# Altium footprint library PcbLib1.PcbLib: 1 footprints
Each footprint in its own frame and in the unit in brackets; x right, y up, seen from the top. Pads: shape width x height; smd on the part's side, far side on the other; paste and mask are expansions set on the pad; w line width, h text height; cw(c..) or ccw(c..) is an arc to the next point about the centre after c.
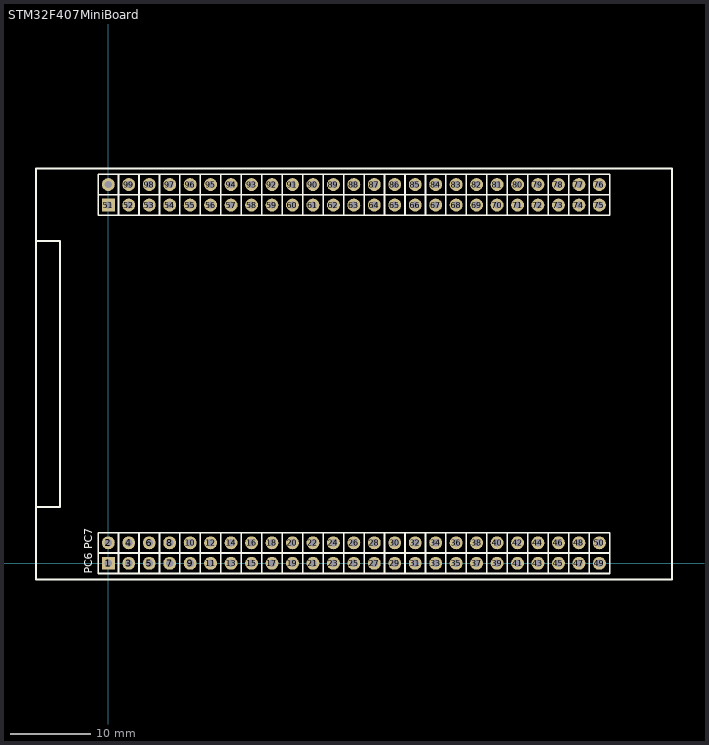
[diagram p0: the footprint, top view; thin cyan lines are the x and y axes]

## STM32F407MiniBoard [mm]
pads (100):
  rect 1.6x1.6 hole 0.9: 1(0,0) 51(0,44.475)
  round 1.6 hole 0.9: 2(0,2.54) 3(2.54,0) 4(2.54,2.54) 5(5.08,0) 6(5.08,2.54) 7(7.62,0) 8(7.62,2.54) 9(10.16,0) 10(10.16,2.54) 11(12.7,0) 12(12.7,2.54) 13(15.24,0) 14(15.24,2.54) 15(17.78,0) 16(17.78,2.54) 17(20.32,0) 18(20.32,2.54) 19(22.86,0) 20(22.86,2.54) 21(25.4,0) 22(25.4,2.54) 23(27.94,0) 24(27.94,2.54) 25(30.48,0) 26(30.48,2.54) 27(33.02,0) 28(33.02,2.54) 29(35.56,0) 30(35.56,2.54) 31(38.1,0) 32(38.1,2.54) 33(40.64,0) 34(40.64,2.54) 35(43.18,0) 36(43.18,2.54) 37(45.72,0) 38(45.72,2.54) 39(48.26,0) 40(48.26,2.54) 41(50.8,0) 42(50.8,2.54) 43(53.34,0) 44(53.34,2.54) 45(55.88,0) 46(55.88,2.54) 47(58.42,0) 48(58.42,2.54) 49(60.96,0) 50(60.96,2.54) 52(2.54,44.475) 53(5.08,44.475) 54(7.62,44.475) 55(10.16,44.475) 56(12.7,44.475) 57(15.24,44.475) 58(17.78,44.475) 59(20.32,44.475) 60(22.86,44.475) 61(25.4,44.475) 62(27.94,44.475) 63(30.48,44.475) 64(33.02,44.475) 65(35.56,44.475) 66(38.1,44.475) 67(40.64,44.475) 68(43.18,44.475) 69(45.72,44.475) 70(48.26,44.475) 71(50.8,44.475) 72(53.34,44.475) 73(55.88,44.475) 74(58.42,44.475) 75(60.96,44.475) 76(60.96,47.015) 77(58.42,47.015) 78(55.88,47.015) 79(53.34,47.015) 80(50.8,47.015) 81(48.26,47.015) 82(45.72,47.015) 83(43.18,47.015) 84(40.64,47.015) 85(38.1,47.015) 86(35.56,47.015) 87(33.02,47.015) 88(30.48,47.015) 89(27.94,47.015) 90(25.4,47.015) 91(22.86,47.015) 92(20.32,47.015) 93(17.78,47.015) 94(15.24,47.015) 95(12.7,47.015) 96(10.16,47.015) 97(7.62,47.015) 98(5.08,47.015) 99(2.54,47.015) 100(0,47.015)
Top Overlay:
  lines w0.2: 62.23,-1.27 -1.27,-1.27 -1.27,3.81 62.23,3.81 ; 62.23,43.205 -1.27,43.205 -1.27,48.285 62.23,48.285
  lines w0.203: -1.27,1.27 62.23,1.27 ; -1.27,45.745 62.23,45.745 ; 1.27,-1.27 1.27,3.81 ; 1.27,43.205 1.27,48.285 ; 3.81,-1.27 3.81,3.81 ; 3.81,43.205 3.81,48.285 ; 6.35,-1.27 6.35,3.81 ; 6.35,43.205 6.35,48.285 ; 8.89,-1.27 8.89,3.81 ; 8.89,43.205 8.89,48.285 ; 11.43,-1.27 11.43,3.81 ; 11.43,43.205 11.43,48.285 ; 13.97,-1.27 13.97,3.81 ; 13.97,43.205 13.97,48.285 ; 16.51,-1.27 16.51,3.81 ; 16.51,43.205 16.51,48.285 ; 19.05,-1.27 19.05,3.81 ; 19.05,43.205 19.05,48.285 ; 21.59,-1.27 21.59,3.81 ; 21.59,43.205 21.59,48.285 ; 24.13,-1.27 24.13,3.81 ; 24.13,43.205 24.13,48.285 ; 26.67,-1.27 26.67,3.81 ; 26.67,43.205 26.67,48.285 ; 29.21,-1.27 29.21,3.81 ; 29.21,43.205 29.21,48.285 ; 31.75,-1.27 31.75,3.81 ; 31.75,43.205 31.75,48.285 ; 34.29,-1.27 34.29,3.81 ; 34.29,43.205 34.29,48.285 ; 36.83,-1.27 36.83,3.81 ; 36.83,43.205 36.83,48.285 ; 39.37,-1.27 39.37,3.81 ; 39.37,43.205 39.37,48.285 ; 41.91,-1.27 41.91,3.81 ; 41.91,43.205 41.91,48.285 ; 44.45,-1.27 44.45,3.81 ; 44.45,43.205 44.45,48.285 ; 46.99,-1.27 46.99,3.81 ; 46.99,43.205 46.99,48.285 ; 49.53,-1.27 49.53,3.81 ; 49.53,43.205 49.53,48.285 ; 52.07,-1.27 52.07,3.81 ; 52.07,43.205 52.07,48.285 ; 54.61,-1.27 54.61,3.81 ; 54.61,43.205 54.61,48.285 ; 57.15,-1.27 57.15,3.81 ; 57.15,43.205 57.15,48.285 ; 59.69,-1.27 59.69,3.81 ; 59.69,43.205 59.69,48.285 ; 62.23,-1.27 62.23,3.81 ; 62.23,43.205 62.23,48.285
  lines w0.254: -9,7 -8,7 -6,7 -6,40 -9,40 ; -9,-2 -9,48.285 -9,49 62.23,49 70,49 70,-2 -1.27,-2 -9,-2
  text "PC6 PC7" at -2,-1.27 h1
3D body "HDR2.54-1x2P.STEP": height 8.5, standoff -3, extent 57.15,-1.27 59.69,3.81
3D body "HDR2.54-1x2P.STEP": height 8.5, standoff -3, extent 49.53,-1.27 52.07,3.81
3D body "HDR2.54-1x2P.STEP": height 8.5, standoff -3, extent 54.61,-1.27 57.15,3.81
3D body "HDR2.54-1x2P.STEP": height 8.5, standoff -3, extent 52.07,-1.27 54.61,3.81
3D body "HDR2.54-1x2P.STEP": height 8.5, standoff -3, extent 59.69,-1.27 62.23,3.81
3D body "HDR2.54-1x2P.STEP": height 8.5, standoff -3, extent 41.91,-1.27 44.45,3.81
3D body "HDR2.54-1x2P.STEP": height 8.5, standoff -3, extent 44.45,-1.27 46.99,3.81
3D body "HDR2.54-1x2P.STEP": height 8.5, standoff -3, extent 36.83,-1.27 39.37,3.81
3D body "HDR2.54-1x2P.STEP": height 8.5, standoff -3, extent 39.37,-1.27 41.91,3.81
3D body "HDR2.54-1x2P.STEP": height 8.5, standoff -3, extent 46.99,-1.27 49.53,3.81
3D body "HDR2.54-1x2P.STEP": height 8.5, standoff -3, extent 29.21,-1.27 31.75,3.81
3D body "HDR2.54-1x2P.STEP": height 8.5, standoff -3, extent 31.75,-1.27 34.29,3.81
3D body "HDR2.54-1x2P.STEP": height 8.5, standoff -3, extent 24.13,-1.27 26.67,3.81
3D body "HDR2.54-1x2P.STEP": height 8.5, standoff -3, extent 26.67,-1.27 29.21,3.81
3D body "HDR2.54-1x2P.STEP": height 8.5, standoff -3, extent 34.29,-1.27 36.83,3.81
3D body "HDR2.54-1x2P.STEP": height 8.5, standoff -3, extent 16.51,-1.27 19.05,3.81
3D body "HDR2.54-1x2P.STEP": height 8.5, standoff -3, extent 19.05,-1.27 21.59,3.81
3D body "HDR2.54-1x2P.STEP": height 8.5, standoff -3, extent 11.43,-1.27 13.97,3.81
3D body "HDR2.54-1x2P.STEP": height 8.5, standoff -3, extent 13.97,-1.27 16.51,3.81
3D body "HDR2.54-1x2P.STEP": height 8.5, standoff -3, extent 21.59,-1.27 24.13,3.81
3D body "HDR2.54-1x2P.STEP": height 8.5, standoff -3, extent 3.81,-1.27 6.35,3.81
3D body "HDR2.54-1x2P.STEP": height 8.5, standoff -3, extent 6.35,-1.27 8.89,3.81
3D body "HDR2.54-1x2P.STEP": height 8.5, standoff -3, extent -1.27,-1.27 1.27,3.81
3D body "HDR2.54-1x2P.STEP": height 8.5, standoff -3, extent 1.27,-1.27 3.81,3.81
3D body "HDR2.54-1x2P.STEP": height 8.5, standoff -3, extent 8.89,-1.27 11.43,3.81
3D body "HDR2.54-1x2P.STEP": height 8.5, standoff -3, extent 8.89,43.205 11.43,48.285
3D body "HDR2.54-1x2P.STEP": height 8.5, standoff -3, extent 1.27,43.205 3.81,48.285
3D body "HDR2.54-1x2P.STEP": height 8.5, standoff -3, extent -1.27,43.205 1.27,48.285
3D body "HDR2.54-1x2P.STEP": height 8.5, standoff -3, extent 6.35,43.205 8.89,48.285
3D body "HDR2.54-1x2P.STEP": height 8.5, standoff -3, extent 3.81,43.205 6.35,48.285
3D body "HDR2.54-1x2P.STEP": height 8.5, standoff -3, extent 21.59,43.205 24.13,48.285
3D body "HDR2.54-1x2P.STEP": height 8.5, standoff -3, extent 13.97,43.205 16.51,48.285
3D body "HDR2.54-1x2P.STEP": height 8.5, standoff -3, extent 11.43,43.205 13.97,48.285
3D body "HDR2.54-1x2P.STEP": height 8.5, standoff -3, extent 19.05,43.205 21.59,48.285
3D body "HDR2.54-1x2P.STEP": height 8.5, standoff -3, extent 16.51,43.205 19.05,48.285
3D body "HDR2.54-1x2P.STEP": height 8.5, standoff -3, extent 34.29,43.205 36.83,48.285
3D body "HDR2.54-1x2P.STEP": height 8.5, standoff -3, extent 26.67,43.205 29.21,48.285
3D body "HDR2.54-1x2P.STEP": height 8.5, standoff -3, extent 24.13,43.205 26.67,48.285
3D body "HDR2.54-1x2P.STEP": height 8.5, standoff -3, extent 31.75,43.205 34.29,48.285
3D body "HDR2.54-1x2P.STEP": height 8.5, standoff -3, extent 29.21,43.205 31.75,48.285
3D body "HDR2.54-1x2P.STEP": height 8.5, standoff -3, extent 46.99,43.205 49.53,48.285
3D body "HDR2.54-1x2P.STEP": height 8.5, standoff -3, extent 39.37,43.205 41.91,48.285
3D body "HDR2.54-1x2P.STEP": height 8.5, standoff -3, extent 36.83,43.205 39.37,48.285
3D body "HDR2.54-1x2P.STEP": height 8.5, standoff -3, extent 44.45,43.205 46.99,48.285
3D body "HDR2.54-1x2P.STEP": height 8.5, standoff -3, extent 41.91,43.205 44.45,48.285
3D body "HDR2.54-1x2P.STEP": height 8.5, standoff -3, extent 59.69,43.205 62.23,48.285
3D body "HDR2.54-1x2P.STEP": height 8.5, standoff -3, extent 52.07,43.205 54.61,48.285
3D body "HDR2.54-1x2P.STEP": height 8.5, standoff -3, extent 54.61,43.205 57.15,48.285
3D body "HDR2.54-1x2P.STEP": height 8.5, standoff -3, extent 49.53,43.205 52.07,48.285
3D body "HDR2.54-1x2P.STEP": height 8.5, standoff -3, extent 57.15,43.205 59.69,48.285